# Altium footprint library SQP.PcbLib: 1 footprints
Each footprint in its own frame and in the unit in brackets; x right, y up, seen from the top. Pads: shape width x height; smd on the part's side, far side on the other; paste and mask are expansions set on the pad; w line width, h text height; cw(c..) or ccw(c..) is an arc to the next point about the centre after c.
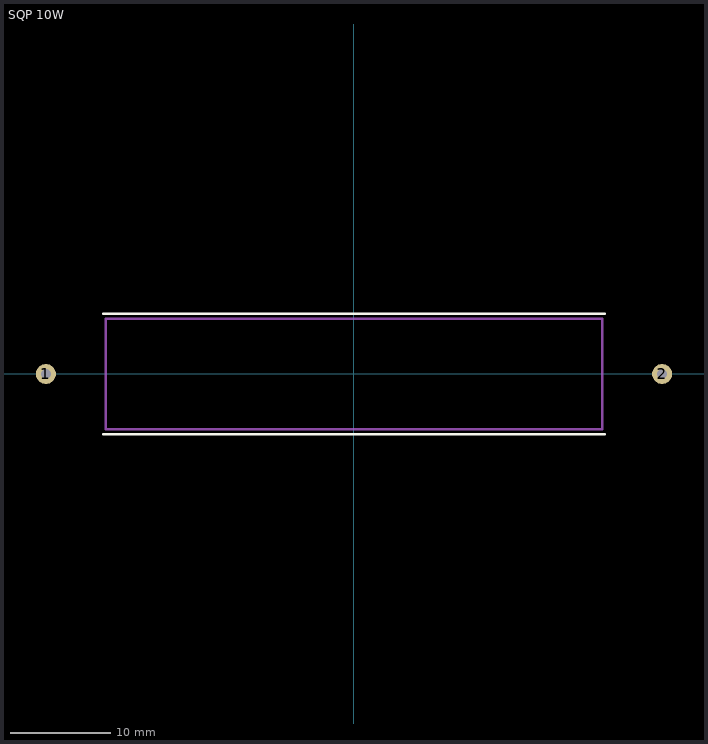
[diagram p0: the footprint, top view; thin cyan lines are the x and y axes]

## SQP 10W [mm]
pads (2):
  round 2 hole 1: 1(-30.75,0) 2(30.75,0)
Top Overlay:
  lines w0.254: -25,-6 25,-6 ; -25,6 25,6
Assembly:
  lines w0.254: -24.75,-5.5 0,-5.5 24.75,-5.5 24.75,5.5 -24.75,5.5 -24.75,-5.5
3D body "SQP10W.step": height 9, standoff -5, extent -31.1,-5 31.097,5